# Altium schematic symbol library TPS53114.SchLib: 1 symbol
Pins are listed as number, name and electrical type; pins without a type are passive.

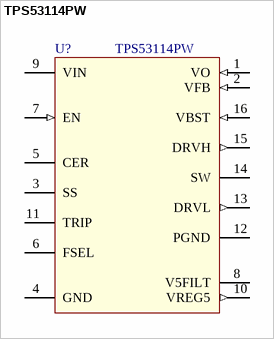
[diagram p0: symbol TPS53114PW]

## TPS53114PW
designator U?
Single Synchronous Step-down Controller for Low Voltage Power Rails; value: TPS53114PW
pins: 1 VO (in), 2 VFB (in), 3 SS, 4 GND (power), 5 CER "Output capacitor select pin. Connect to GND for ceramic output capacitors. Connect to V5FILT for CER 5 I  conductive polymer electrolyte type output capacitors (SP-CAP, POS-CAP, PXE)", 6 FSEL, 7 EN (in), 8 V5FILT, 9 VIN (power), 10 VREG5 (out), 11 TRIP, 12 PGND, 13 DRVL (out), 14 SW, 15 DRVH (out), 16 VBST (in)